# Altium footprint library Footprints.PcbLib: 77 footprints (part 1 of 5)
Each footprint in its own frame and in the unit in brackets; x right, y up, seen from the top. Pads: shape width x height; smd on the part's side, far side on the other; paste and mask are expansions set on the pad; w line width, h text height; cw(c..) or ccw(c..) is an arc to the next point about the centre after c.
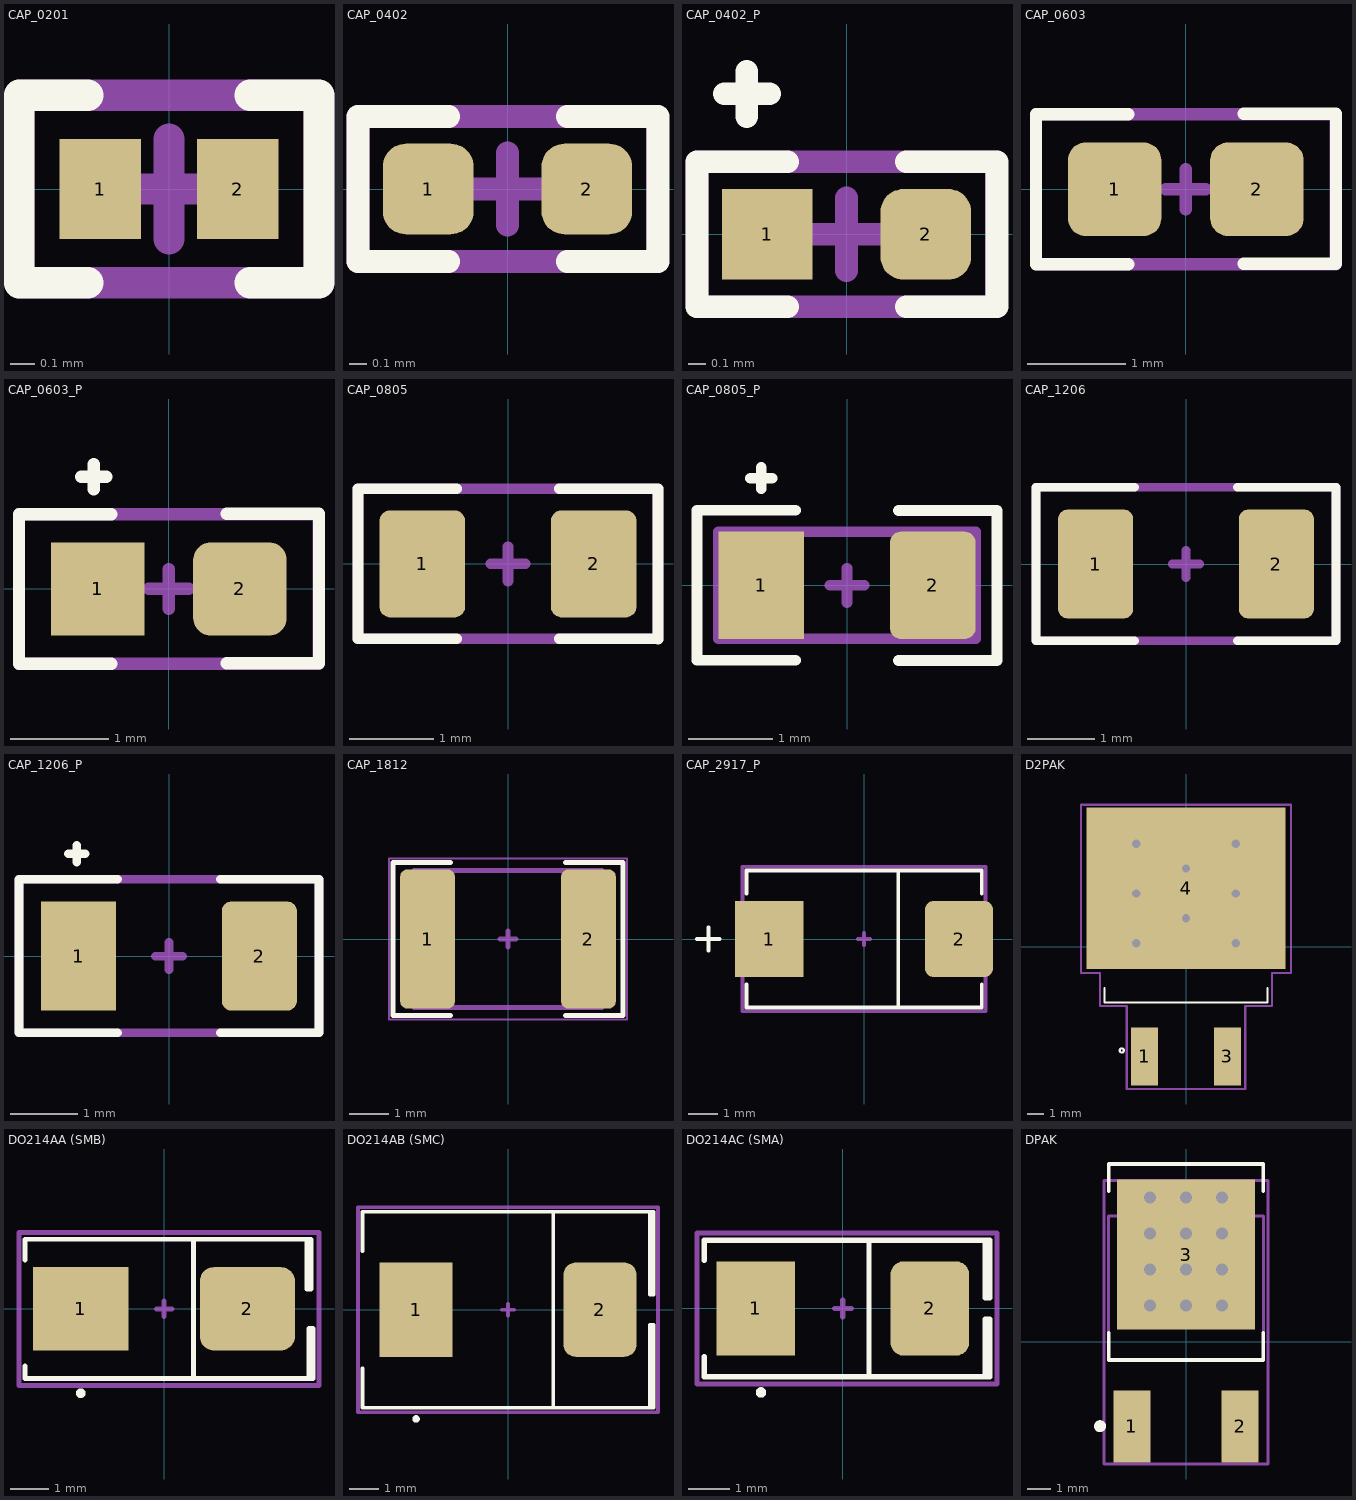
[diagram p0: the footprints below, top view; thin cyan lines are the x and y axes]

## CAP_0201 [mil]
pads (2):
  rect 13x16 smd paste-999 mask+3: 1(-11,0) 2(11,0)
Top Overlay:
  lines w5: -13,-15 -24,-15 -24,15 -13,15 ; 13,-15 24,-15 24,15 13,15
Top Paste:
  rectangle: -17.5,-8 -5.5,8
  region: 17.5,8 5.5,8 5.5,-8 17.5,-8
Top Designator:
  text "'.Comment'" at -29,-45 h20
  text "'.Designator'" at -29,-11.34 h20
Top Assembly (Mech8):
  lines w5: -8,0 8,0 ; 0,-8 0,8 ; -24,-15 24,-15 24,15 -24,15 -24,-15
3D body "Cap0402.step": height 19.68, standoff 0, extent -19.37,-9.69 20,10

## CAP_0402 [mil]
pads (2):
  rrect50% 20x20 smd paste+0 mask+1.97: 1(-17.5,0) 2(17.5,0)
Top Overlay:
  lines w5: -13,-16 -33,-16 -33,16 -13,16 ; 13.2,-15.98 33.2,-15.98 33.2,16.02 13.2,16.02
Top Designator:
  text "'.Designator'" at -29,-11.34 h20
  text "'.Comment'" at -29,-45 h20
Top Assembly (Mech8):
  lines w5: -8,0 8,0 ; 0,-8 0,8 ; -33,-16 33,-16 33,16 -33,16 -33,-16
3D body "Cap0402.step": height 19.68, standoff 0, extent -19.37,-9.69 20,10

## CAP_0402_P [mil]
pads (3):
  rect 20x20 smd paste+0 mask+1.97: 1(-17.5,0)
  rrect50% 20x20 smd paste+0 mask+1.97: 2(17.5,0)
  round 7.5 on Mech8: ""(-17.5,0)
Top Overlay:
  lines w5: -27,31 -17,31 ; -22,26 -22,36 ; -13,-16 -33,-16 -33,16 -13,16 ; 13.2,-15.98 33.2,-15.98 33.2,16.02 13.2,16.02
Top Designator:
  text "'.Comment'" at -29,-45 h20
  text "'.Designator'" at -29,-11.34 h20
Top Assembly (Mech8):
  lines w5: -8,0 8,0 ; 0,-8 0,8 ; -33,-16 33,-16 33,16 -33,16 -33,-16
3D body "Cap0402.step": height 19.68, standoff 0, extent -19.37,-9.69 20,10

## CAP_0603 [mm]
pads (2):
  rrect37% 0.95x0.95 smd: 1(-0.724,0) 2(0.724,0)
Top Overlay:
  lines w0.127: -0.584,-0.762 -1.524,-0.762 -1.524,0.762 -0.584,0.762 ; 0.589,-0.757 1.529,-0.757 1.529,0.767 0.589,0.767
Top Designator:
  text "'.Designator'" at -1.372,0.017 h0.51
  text "'.Comment'" at -1.372,-1.499 h0.51
Bottom Designator:
Top Assembly (Mech8):
  lines w0.127: -0.203,0 0.203,0 ; 0,-0.203 0,0.203 ; -1.524,-0.762 1.524,-0.762 1.524,0.762 -1.524,0.762 -1.524,-0.762
3D body "User Library-CAPC1608X09.step": height 0.9, standoff 0, extent -0.8,-0.4 0.8,0.4

## CAP_0603_P [mil]
pads (3):
  rect 37.4x37.4 smd: 1(-28.5,0)
  rrect37% 37.4x37.4 smd: 2(28.5,0)
  round 7.5 on Mech8: ""(-28.5,0)
Top Overlay:
  lines w5: -35,45 -25,45 ; -30,40 -30,50 ; -23,-30 -60,-30 -60,30 -23,30 ; 23.18,-29.8 60.18,-29.8 60.18,30.2 23.18,30.2
Top Designator:
  text "'.Comment'" at -54,-59 h20
  text "'.Designator'" at -54,0.66 h20
Bottom Designator:
Top Assembly (Mech8):
  lines w5: -8,0 8,0 ; 0,-8 0,8 ; -60,-30 60,-30 60,30 -60,30 -60,-30
3D body "User Library-CAPC1608X09.step": height 35.43, standoff 0, extent -31.49,-15.74 31.51,15.76

## CAP_0805 [mil] "Generic 0805 capacitor"
height 13.78
pads (2):
  rrect25% 40x50 smd: 1(-40,0) 2(40,0)
Top Overlay:
  lines w5: -24,-35 -70,-35 -70,35 -24,35 ; 23.96,-35 69.96,-35 ; 23.96,35 69.96,35 ; 69.96,-35.13 69.96,34.87
Top Designator:
  text "'.Designator'" at -64,6.66 h20
  text "'.Comment'" at -64,-30 h20
Top Assembly (Mech8):
  lines w5: -8,0 8,0 ; 0,-8 0,8 ; -70,-35 70,-35 70,35 -70,35 -70,-35
3D body "CircuitWorks-RC0805.step": height 24.13, standoff 0.5, extent -39.37,-24.6 39.37,24.61

## CAP_0805_P [mil]
pads (3):
  rect 40x50 smd: 1(-40,0)
  rrect25% 40x50 smd: 2(40,0)
  round 7.5 on Mech8: ""(-40,0)
Top Overlay:
  lines w5: -45,50 -35,50 ; -40,45 -40,55 ; -24,-35 -70,-35 -70,35 -24,35 ; 23.96,-35.13 69.96,-35.13 69.96,34.87 23.96,34.87
Top Designator:
  text "'.Designator'" at -64,6.66 h20
  text "'.Comment'" at -64,-30 h20
Top Assembly (Mech8):
  lines w5: -8,0 8,0 ; 0,-8 0,8 ; -60,-25 60,-25 60,25 -60,25 -60,-25
3D body "CircuitWorks-RC0805.step": height 24.13, standoff 0.5, extent -39.37,-24.6 39.37,24.61

## CAP_1206 [mil]
pads (2):
  rrect25% 44x64 smd: 1(-53,0) 2(53,0)
Top Overlay:
  lines w5: -30,-45 -88,-45 -88,45 -30,45 ; 30,-45 88,-45 88,45 30,45
Top Designator:
  text "'.Comment'" at -83.06,-39.49 h20
  text "'.Designator'" at -83.06,15.66 h20
Top Assembly (Mech8):
  lines w5: -8,0 8,0 ; 0,-8 0,8 ; -88,-45 88,-45 88,45 -88,45 -88,-45
3D body "User Library-1206 SMD Capacitor.step": height 39.95, standoff 0.5, extent -62.98,-31.5 63,31.5

## CAP_1206_P [mil]
pads (3):
  rect 44x64 smd: 1(-53,0)
  rrect25% 44x64 smd: 2(53,0)
  round 7.5 on Mech8: ""(-53,0)
Top Overlay:
  lines w5: -59,60 -49,60 ; -54,55 -54,65 ; -30,-45 -88,-45 -88,45 -30,45 ; 30,-45 88,-45 88,45 30,45
Top Designator:
  text "'.Comment'" at -83.06,-39.49 h20
  text "'.Designator'" at -83.06,15.66 h20
Top Assembly (Mech8):
  lines w5: -8,0 8,0 ; 0,-8 0,8 ; -88,-45 88,-45 88,45 -88,45 -88,-45
3D body "User Library-1206 SMD Capacitor.step": height 39.95, standoff 0.5, extent -62.98,-31.5 63,31.5

## CAP_1812 [mil]
pads (2):
  rrect25% 55x140 smd: 1(-81,0) 2(81,0)
Top Overlay:
  lines w5: -57.98,-77 -115.98,-77 -115.98,77 -57.98,77 ; 57.98,-77 115.98,-77 115.98,77 57.98,77
Top Designator:
  text "'.Designator'" at -113.3,-8.33 h20
Top Assembly (Mech8):
  lines w5: -8,0 8,0 ; 0,-8 0,8 ; -94.49,-68.9 94.49,-68.9 94.49,68.9 -94.49,68.9 -94.49,-68.9
Top Courtyard:
  lines w2: -120,-81 -120,81 120,81 120,-81 -120,-81
3D body "step_temp.STEP": height 43.31, standoff 0, extent -88.58,-62.99 88.58,62.99

## CAP_2917_P [mil]
pads (3):
  rect 90x100 smd: 1(-125,0)
  rrect25% 90x100 smd paste+0 mask+0: 2(125,0)
  round 7.5 on Mech8: ""(-125,0)
Top Overlay:
  lines w5: -220,0 -190,0 ; -205,-15 -205,15 ; -155,-60 -155,-90 155,-90 155,-60 ; -155,60 -155,90 155,90 155,60 ; 45,-90 45,90
Top Designator:
  text "'.Designator'" at -121.06,24.66 h20
  text "'.Comment'" at -121.06,-30.49 h20
Top Assembly (Mech8):
  lines w5: -8,0 8,0 ; 0,-8 0,8 ; -160,-95 160,-95 160,95 -160,95 -160,-95
3D body "CAPMP76X43_43N_KEM.step": height 171.3, standoff 0, extent -149.61,-84.65 149.6,84.64

## D2PAK [mil]
pads (4):
  rect 65x140 smd: 1(-100,-264) 3(100,-264)
  rect 480x390 smd paste-275.59: 4(0,141)
  round 7.5 on Mech8: ""(-100,-264)
via -120,249 diameter 40 hole 20
via 120,249 diameter 40 hole 20
via 0,189 diameter 40 hole 20
via 120,129 diameter 40 hole 20
via -120,129 diameter 40 hole 20
via 0,69 diameter 40 hole 20
via 120,9 diameter 40 hole 20
via -120,9 diameter 40 hole 20
Top Overlay:
  circle w5: c-155,-250 r5
  lines w5: -197,-99 -197,-134 197,-134 197,-99
Top Paste:
  rectangle: 30,174 90,204
  rectangle: -90,174 -30,204
  rectangle: 30,54 90,84
  rectangle: -90,54 -30,84
  rectangle: 5,94 90,124
  rectangle: -90,94 -5,124
  rectangle: 5,-44 90,4
  rectangle: -90,-44 -5,4
  rectangle: 5,14 90,44
  rectangle: -90,14 -5,44
  rectangle: 5,134 90,164
  rectangle: -90,214 -5,244
  rectangle: -90,134 -5,164
  rectangle: 5,214 90,244
  rectangle: 5,254 90,326
  rectangle: -90,254 -5,326
  rectangle: 150,-44 230,4
  rectangle: 150,14 230,124
  rectangle: 150,134 230,244
  rectangle: 150,254 230,326
  rectangle: -230,-44 -150,4
  rectangle: -230,14 -150,124
  rectangle: -230,134 -150,244
  rectangle: -230,254 -150,326
Top Designator:
  text "'.Comment'" at -188.06,-180.49 h20
  text "'.Designator'" at -188.06,-125.34 h20
Top Assembly (Mech8):
  lines w5: -253,-63 -208,-63 -208,-143 -143,-143 -143,-343 143,-343 143,-143 208,-143 208,-63 253,-63 253,343 -253,343 -253,-63
3D body "STPS30L30CG-TR.STEP": height 189.04, standoff -1.03, extent -200.79,-303.63 200.79,303.65

## DO214AA (SMB) [mil]
pads (3):
  rect 97x85 smd: 1(-85,0)
  rrect33% 97x85 smd: 2(85,0)
  round 7.5 on Mech8: ""(-85,0)
Top Overlay:
  circle w5: c-85,-86 r2.5
  lines w5: -142,-58 -142,-71 152,-71 152,-20 147.5,-20 147.5,-71 ; -142,50 -142,71 150,71 150,20 145.5,20 145.5,71 ; 30,-71 30,71
Top Designator:
  text "'.Designator'" at -136.06,-15.34 h20
  text "'.Comment'" at -136.06,-65.49 h20
Top Assembly (Mech8):
  lines w5: -8,0 8,0 ; 0,-8 0,8 ; -148,-78 158,-78 158,78 -148,78 -148,-78
3D body "SMB.STEP": height 94.49, standoff 0, extent -102.36,-70.85 102.37,70.86

## DO214AB (SMC) [mil]
pads (3):
  rect 97x125 smd: 1(-122,0)
  rrect33% 97x125 smd: 2(122,0)
  round 7.5 on Mech8: ""(-122,0)
Top Overlay:
  circle w5: c-122,-145 r2.5
  lines w5: -193,-78 -193,-130 193,-130 193,-20 188.5,-20 188.5,-130 ; -193,78 -193,130 193,130 193,20 188.5,20 188.5,130 ; 60,-130 60,130
Top Designator:
  text "'.Designator'" at -171.06,-74.34 h20
  text "'.Comment'" at -171.06,-124.49 h20
Top Assembly (Mech8):
  lines w5: -8,0 8,0 ; 0,-8 0,8 ; -199,-136 -199,136 199,136 199,-136 -199,-136
3D body "SMC.STEP": height 102.36, standoff 0, extent -156.3,-116 156.3,116.46

## DO214AC (SMA) [mil]
pads (3):
  rect 75x90 smd: 1(-83,0)
  rrect33% 75x90 smd: 2(83,0)
  round 7.5 on Mech8: ""(-83,0)
Top Overlay:
  circle w5: c-78,-80 r2.5
  lines w5: -132,-46 -132,-65 140,-65 140,-10 135.5,-10 135.5,-65 ; -132,46 -132,65 140,65 140,10 135.5,10 135.5,65 ; 25,-65 25,65
Top Designator:
  text "'.Comment'" at -115.06,-59.49 h20
  text "'.Designator'" at -115.06,-9.34 h20
Top Assembly (Mech8):
  lines w5: -8,0 8,0 ; 0,-8 0,8 ; -139,-72 -139,72 147,72 147,-72 -139,-72
3D body "SMA.STEP": height 94.49, standoff 0, extent -102.36,-54.12 102.37,54.12

## DPAK [mil]
pads (4):
  rect 62x120 smd: 1(-90,-141) 2(90,-141)
  rect 230x250 smd paste-999: 3(0,145)
  round 7.5 on Mech8: ""(-90,-141)
via -60,240 diameter 40 hole 20
via 60,240 diameter 40 hole 20
via 60,120 diameter 40 hole 20
via -60,120 diameter 40 hole 20
via 60,60 diameter 40 hole 20
via 0,60 diameter 40 hole 20
via -60,60 diameter 40 hole 20
via 0,120 diameter 40 hole 20
via 0,240 diameter 40 hole 20
via 0,180 diameter 40 hole 20
via 60,180 diameter 40 hole 20
via -60,180 diameter 40 hole 20
Top Overlay:
  circle w10: c-143.31,-140.74 r4.92
  lines w5.91: -128.74,14.66 -128.74,-30.5 128.74,-30.5 128.74,14.66 ; -128.74,250.84 -128.74,296 128.74,296 128.74,250.84
Top Paste:
  rectangle: 35,25 85,35
  rectangle: -25,25 25,35
  rectangle: -85,25 -35,35
  rectangle: 35,85 85,95
  rectangle: -25,85 25,95
  rectangle: -85,85 -35,95
  rectangle: 35,145 85,155
  rectangle: -25,145 25,155
  rectangle: -85,145 -35,155
  rectangle: 35,205 85,215
  rectangle: -25,205 25,215
  rectangle: -85,205 -35,215
  rectangle: -110,25 -85,265
  rectangle: 85,25 110,265
  rectangle: -35,25 -25,265
  rectangle: 25,25 35,265
Top Designator:
  text "'.Comment'" at -121.05,-65.49 h20
  text "'.Designator'" at -121.05,-16.34 h20
Top Assembly (Mech8):
  lines w5: -13,52 13,52 ; 0,39 0,65 ; -136.42,-203.72 136.42,-203.72 136.42,268.71 -136.42,268.71 -136.42,-203.72 ; -128.74,-30.5 -128.74,209.47 128.74,209.47 128.74,-30.5 -128.74,-30.5
3D body "User Library-DPAK-1.step": height 90.46, standoff -4.62, extent -128.74,-176.76 128.74,214.51